# EAGLE library part LM358FV-GE2 (library LM358FV-GE2)
Operational Amplifiers - Op Amps LM358FV is a dual ground sense operational amplifier. These have features of low current consumption and wide operating voltage range from 3V to 32V (single power supply). Source: Datasheet <https://fscdn.rohm.com/en/products/databook/datasheet/ic/amp_linear/opamp/lm358f-e.pdf>
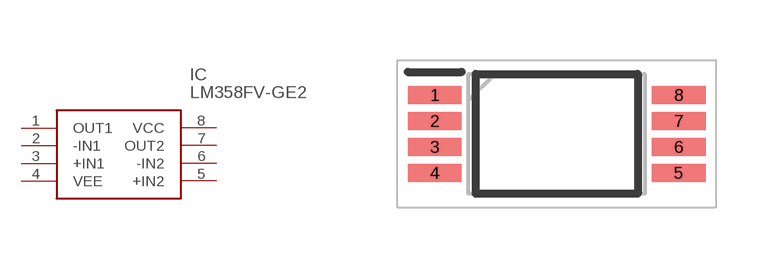
[diagram p0: symbol with the pads of SOP65P640X135-8N; footprint SOP65P640X135-8N]

Designator prefix IC

## LM358FV-GE2 (Description: Operational Amplifiers - Op Amps LM358FV is a dual ground sense operational amplifier. These have features of low current consumption and wide operating voltage range from 3V to 32V (single power supply).; Height: 1.35mm; Manufacturer_Name: ROHM Semiconductor; Manufacturer_Part_Number: LM358FV-GE2; Mouser_Part_Number: 755-LM358FV-GE2; Mouser_Price-Stock: https://www.mouser.co.uk/ProductDetail/ROHM-Semiconductor/LM358FV-GE2?qs=HXFqYaX1Q2xR2xgE3bpCFQ%3D%3D)  [SOP65P640X135-8N]
1  OUT1
2  -IN1
3  +IN1
4  VEE
5  +IN2
6  -IN2
7  OUT2
8  VCC

## Footprint SOP65P640X135-8N (pad centres in mm)
SSOP-B8
smd 1.35 x 0.45: 1 -3.05,0.975; 2 -3.05,0.325; 3 -3.05,-0.325; 4 -3.05,-0.975; 5 3.05,-0.975; 6 3.05,-0.325; 7 3.05,0.325; 8 3.05,0.975